# Altium footprint library Crystals.PcbLib: 36 footprints (part 3 of 3)
Each footprint in its own frame and in the unit in brackets; x right, y up, seen from the top. Pads: shape width x height; smd on the part's side, far side on the other; paste and mask are expansions set on the pad; w line width, h text height; cw(c..) or ccw(c..) is an arc to the next point about the centre after c.
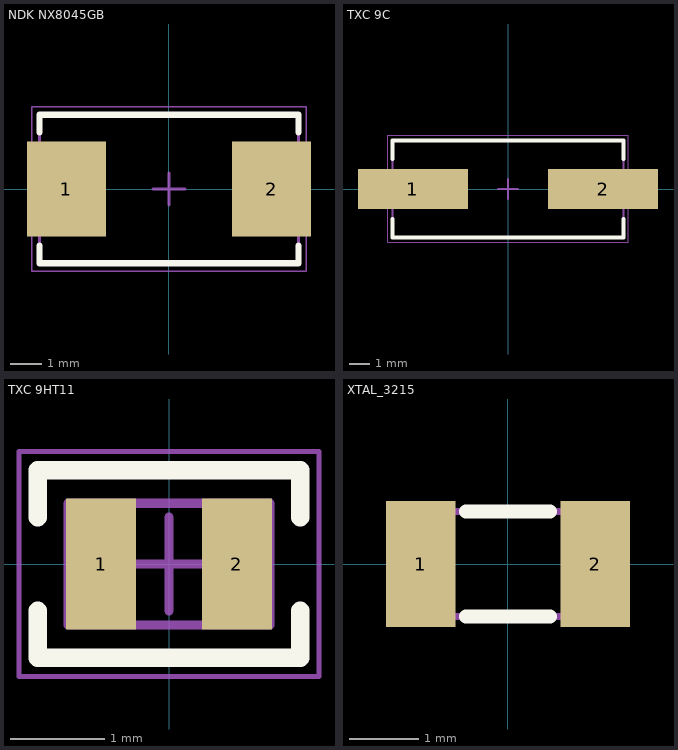
[diagram p2: the footprints below, top view; thin cyan lines are the x and y axes]

## NDK NX8045GB [mm] "Crystal, 2-Leads, Body 4.50x8.00mm, Pitch 6.50mm, IPC Medium Density"
height 1.8
pads (2):
  rect 2.5x3 smd: 1(-3.25,0) 2(3.25,0)
Top Overlay:
  lines w0.2: -4.1,-1.8 -4.1,-2.35 4.1,-2.35 4.1,-1.8 ; -4.1,1.8 -4.1,2.35 4.1,2.35 4.1,1.8
Top Component Outline:
  lines w0.1: -4.1,-2.35 -4.1,2.35 4.1,2.35 4.1,-2.35 -4.1,-2.35
Top Courtyard (Mech15):
  lines w0.05: -4.35,-2.6 -4.35,2.6 4.35,2.6 4.35,-2.6 -4.35,-2.6
  lines w0.1: -0.5,0 0.5,0 ; 0,-0.5 0,0.5
3D body "NDK NX8045GB.STEP": height 1.8, standoff 0, extent -4,-2.25 4,2.25

## TXC 9C [mm] "Crystal, 2-Leads, Body 4.70x11.40mm, Pitch 8.80mm, IPC Medium Density"
height 4.2
pads (2):
  rect 5.5x2 smd: 1(-4.75,0) 2(4.75,0)
Top Overlay:
  lines w0.2: -5.775,-1.5 -5.775,-2.425 5.775,-2.425 5.775,-1.5 ; -5.775,1.5 -5.775,2.425 5.775,2.425 5.775,1.5
Top Component Outline:
  lines w0.1: -5.775,-2.425 5.775,-2.425 5.775,2.425 -5.775,2.425 -5.775,-2.425
Top Courtyard (Mech15):
  lines w0.05: -6.025,-2.675 6.025,-2.675 6.025,2.675 -6.025,2.675 -6.025,-2.675
  lines w0.1: -0.5,0 0.5,0 ; 0,-0.5 0,0.5
3D body "HC49US SMT Crystal.STEP": height 4.2, standoff 0, extent -6.35,-2.35 6.35,2.35

## TXC 9HT11 [mm] "Crystal, 2-Leads, Body 1.20x2.00mm, Pitch 1.50mm, IPC Medium Density"
height 0.6
pads (2):
  rect 0.75x1.4 smd: 1(-0.725,0) 2(0.725,0)
Top Overlay:
  lines w0.2: -1.4,-0.5 -1.4,-1 0,-1 1.4,-1 1.4,-0.5 ; -1.4,0.5 -1.4,1 1.4,1 1.4,0.5
Top Component Outline:
  lines w0.1: -1.075,-0.65 1.075,-0.65 1.075,0.65 -1.075,0.65 -1.075,-0.65
Top Courtyard (Mech15):
  lines w0.05: -1.6,-1.2 1.6,-1.2 1.6,1.2 -1.6,1.2 -1.6,-1.2
  lines w0.1: -0.5,0 0.5,0 ; 0,-0.5 0,0.5
3D body "Abracon ABS06.STEP": height 0.6, standoff 0, extent -1.025,-0.625 1.025,0.625

## XTAL_3215 [mm]
pads (2):
  rect 1x1.8 smd: 1(-1.25,0) 2(1.25,0)
Top Overlay:
  lines w0.2: -0.6,-0.75 0.6,-0.75 ; -0.6,0.75 0.6,0.75
Bottom 3D Body:
  lines w0.1: -1.6,-0.55 cw(c-1.6,-0.75) -1.4,-0.75 1.4,-0.75 cw(c1.6,-0.75) 1.6,-0.55 1.6,0.55 cw(c1.6,0.75) 1.4,0.75 -1.4,0.75 cw(c-1.6,0.75) -1.6,0.55 -1.6,-0.55
3D body "User Library-Siward_SX3215.step": height 0.81, standoff 0, extent -1.6,-0.75 1.6,0.75
3D body: height 0.81, standoff 0.15, extent -1.2,-0.6 1.2,0.6